# EAGLE library part 621008242921 (library Wuerth_Elektronik_eiCan_Pin_&_Socked_Headers_v1.3)
WR-PHD 2.00mm Dual SMT Socket Header, 8 Pins
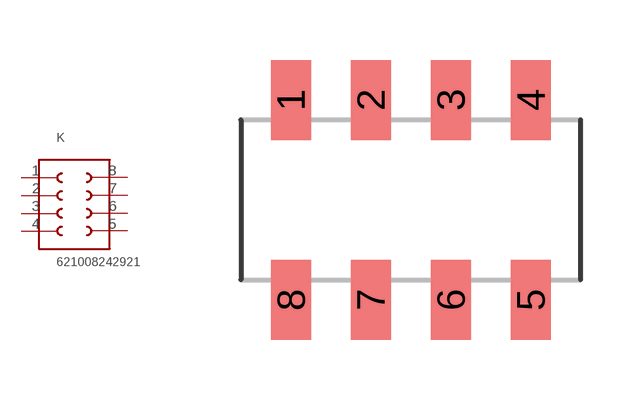
[diagram p304: symbol with the pads of 621008242921; footprint 621008242921]

Designator prefix K

## 621008242921  [621008242921]
1  1  pas
2  2  pas
3  3  pas
4  4  pas
5  5  pas
6  6  pas
7  7  pas
8  8  pas

## Footprint 621008242921 (pad centres in mm)
WR-PHD 2.00mm Dual SMT Socket Header, 8 Pins
smd 1 x 2: 1 -3,2.5; 2 -1,2.5; 3 1,2.5; 4 3,2.5; 5 3,-2.5; 6 1,-2.5; 7 -1,-2.5; 8 -3,-2.5